# Altium schematic symbol library AudioLib.SchLib: 28 symbols
Pins are listed as number, name and electrical type; pins without a type are passive.

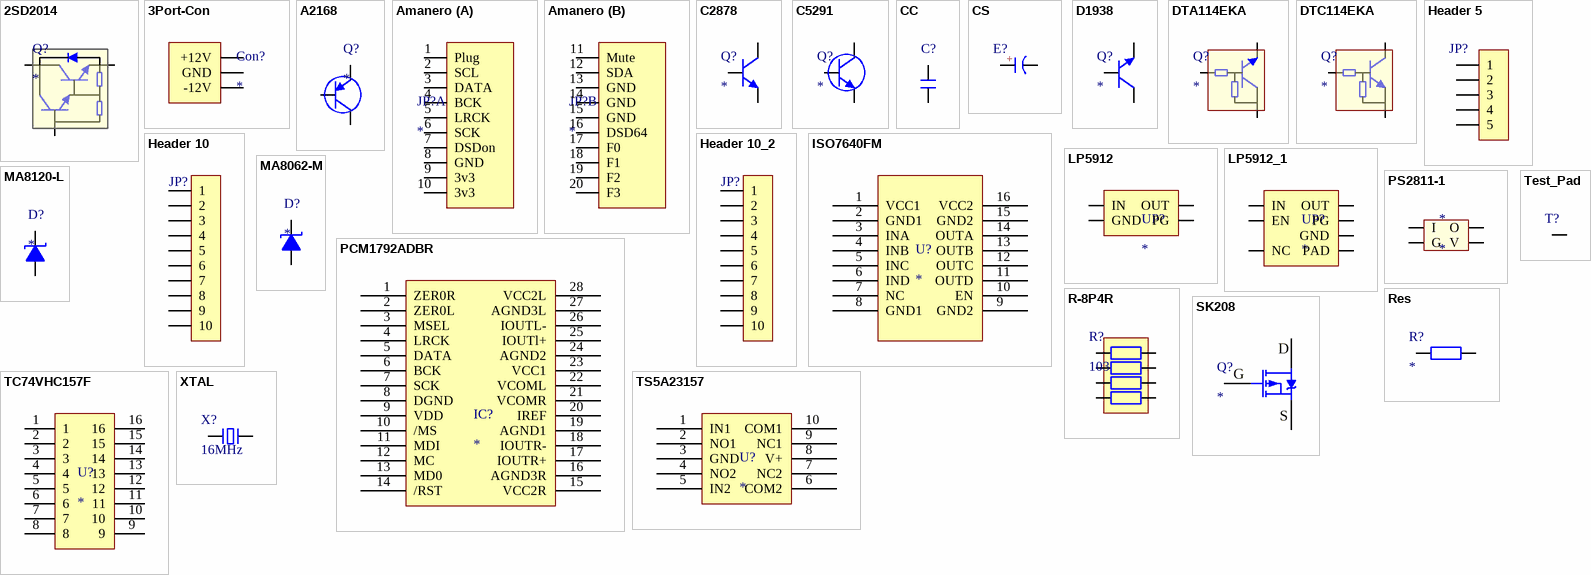
[diagram p0: symbols 2SD2014 to XTAL]

## 2SD2014
designator Q?
pins: 1 B, 2 C, 3 E

## 3Port-Con
designator Con?
Dual-12V Connector
pins: 1 +12V, 2 GND, 3 -12V

## A2168
designator Q?
pins: 1 E, 2 C, 3 B

## Amanero
designator JP?
Manufacturer: Texas Instruments; GENERIC_PART_NUMBER: NE5532; INDUSTRY_STD_PKG_TYPE: SOIC; FAMILY_NAME: STANDARD LINEAR AMPLIFIER; PIN_COUNT: 8; PACKAGE_DESIGNATOR: D; Datasheet_URL: http://www.ti.com/lit/gpn/NE5532; Value: Value; Type: Type; RefDes: RefDes
part A pins: 1 Plug, 2 SCL, 3 DATA, 4 BCK, 5 LRCK, 6 SCK, 7 DSDon, 8 GND, 9 3v3, 10 3v3
part B pins: 11 Mute, 12 SDA, 13 GND, 14 GND, 15 GND, 16 DSD64, 17 F0, 18 F1, 19 F2, 20 F3

## C2878
designator Q?
pins: 1 B, 2 E, 3 C

## C5291
designator Q?
pins: 1 E, 2 C, 3 B

## CC
designator C?
陶片电容
pins: 1, 2

## CS
designator E?
电解电容
pins: A, K
text: +

## D1938
designator Q?
pins: 1 B, 2 E, 3 C

## DTA114EKA
designator Q?
footprint SOT23-3L (3x1.3x1mm(长宽高))
pins: 1 B, 2 E, 3 C

## DTC114EKA
designator Q?
footprint SOT23-3L (3x1.3x1mm(长宽高))
pins: 1 B, 2 C, 3 E

## Header 5
designator JP?, comment HDR-1X5  (value not drawn)
5P接插件; 版权归属: 源创客; BOM名称: 5P接插件; 学习资源: www.ooocke.com
footprint HDR-1X5_H (弯脚排针，5脚)
footprint HDR-1X5 (排针，5脚)
footprint HDR-1X5_M (排母，5脚)
footprint XH2.54-5P (接插件，5P)
footprint VH3.96-5P (接插件，25V/5A)
footprint HDR-1X5_Y (圆孔排母，5脚)
footprint KF2510-5P (接插件/2A)
footprint VH3.96-5P_H (接插件，25V/5A)
footprint XH2.54-5P_H (接插件，5P)
footprint KF301-5P (可拼接端子/6A)
footprint KF2EDGK5.0-5P (直列插拔式端子)
footprint PH2.0 D-L-5P (接插件/1A)
footprint PH2.0 D-W-5P (接插件/1A)
footprint KF2EDGK5.0-5P_H (弯角插拔式端子)
footprint KF7620-5P (38.1*12*12mm(长宽高))
footprint KF350-5P (可拼接端子/10A)
footprint KF128-3.81-5P (螺钉式接线端子，脚距3.81mm)
footprint KF128-5.08-5P (螺钉式接线端子，脚距5.08mm)
footprint PH2.0 S-W-5P (长：14mm，宽：7.6mm，高：5.5mm)
footprint KF2EDGK5.08-5P (直列插拔式端子)
footprint KF2EDGK5.08-5P_H (弯角插拔式端子)
footprint HDR2.54 S-W-5P (5P卧式贴片排针2.54)
footprint HDR2.54 S-W-5P_M (5P卧式贴片排母2.54)
footprint HDR-1X5_M (排母，5脚)
pins: 1, 2, 3, 4, 5

## Header 10
designator JP?, comment HDR-1X10  (value not drawn)
10P接插件; 版权归属: 源创客; BOM名称: 10P接插件; 学习资源: www.ooocke.com
footprint HDR-1X10 (排针，10脚)
footprint HDR-1X10_H (弯脚排针，10脚)
footprint HDR-1X10_Y (圆孔排母，10脚)
footprint PH2.0 D-L-10P (接插件/1A)
footprint PH2.0 D-W-10P (接插件/1A)
footprint XH2.54-10P (接插件，10P)
footprint XH2.54-10P_H
footprint HDR-1X10_M (排母，10脚)
footprint MX 1.25-DIP-10P (10脚，长：14.5mm，宽：3.2mm，高：4.2mm)
footprint MX 1.25-DIP-10P_H (10脚，长：14.5mm，宽：1.8mm，高：3.3mm)
footprint MX 1.25-SMD-10P (10脚，长：14.5mm，宽：3.2mm，高：4.2mm)
footprint MX 1.25-SMD-10P_V (10脚，长：14.5mm，宽：4.2mm，高：3.4mm)
footprint KF128-5.08-10P (螺钉式接线端子，脚距5.08mm)
footprint KF128-3.81-10P (螺钉式接线端子，脚距3.81mm)
footprint PH2.0 S-W-10P (长：24mm，宽：7.6mm，高：5.5mm)
footprint HDR2.54 S-W-10P (10P卧式贴片排针2.54)
footprint HDR2.54 S-W-10P_M (10P卧式贴片排母2.54)
pins: 1, 2, 3, 4, 5, 6, 7, 8, 9, 10

## Header 10_2
designator JP?, comment HDR-1X10  (value not drawn)
10P接插件; 版权归属: 源创客; BOM名称: 10P接插件; 学习资源: www.ooocke.com
footprint HDR-1X10 (排针，10脚)
footprint HDR-1X10_H (弯脚排针，10脚)
footprint HDR-1X10_Y (圆孔排母，10脚)
footprint PH2.0 D-L-10P (接插件/1A)
footprint PH2.0 D-W-10P (接插件/1A)
footprint XH2.54-10P (接插件，10P)
footprint XH2.54-10P_H
footprint HDR-1X10_M (排母，10脚)
footprint MX 1.25-DIP-10P (10脚，长：14.5mm，宽：3.2mm，高：4.2mm)
footprint MX 1.25-DIP-10P_H (10脚，长：14.5mm，宽：1.8mm，高：3.3mm)
footprint MX 1.25-SMD-10P (10脚，长：14.5mm，宽：3.2mm，高：4.2mm)
footprint MX 1.25-SMD-10P_V (10脚，长：14.5mm，宽：4.2mm，高：3.4mm)
footprint KF128-5.08-10P (螺钉式接线端子，脚距5.08mm)
footprint KF128-3.81-10P (螺钉式接线端子，脚距3.81mm)
footprint PH2.0 S-W-10P (长：24mm，宽：7.6mm，高：5.5mm)
footprint HDR2.54 S-W-10P (10P卧式贴片排针2.54)
footprint HDR2.54 S-W-10P_M (10P卧式贴片排母2.54)
pins: 1, 2, 3, 4, 5, 6, 7, 8, 9, 10

## ISO7640FM
designator U?
pins: 1 VCC1, 2 GND1, 3 INA, 4 INB, 5 INC, 6 IND, 7 NC, 8 GND1, 9 GND2, 10 EN, 11 OUTD, 12 OUTC, 13 OUTB, 14 OUTA, 15 GND2, 16 VCC2

## LP5912
designator UP?
pins: 1 OUT, 3 PG, 5 GND, 6 IN

## LP5912_1
designator UP?
pins: 1 OUT, 2 NC, 3 PG, 4 EN, 5 GND, 6 IN, 7 PAD

## MA8062-M
designator D?
pins: 1 A, 2 K

## MA8120-L
designator D?
pins: 1 A, 2 K

## PCM1792ADBR
designator IC?
footprint SSOP-28
footprint DB0028A_N
pins: 1 ZER0R, 2 ZER0L, 3 MSEL, 4 LRCK, 5 DATA, 6 BCK, 7 SCK, 8 DGND, 9 VDD, 10 /MS, 11 MDI, 12 MC, 13 MD0, 14 /RST, 15 VCC2R, 16 AGND3R, 17 IOUTR+, 18 IOUTR-, 19 AGND1, 20 IREF, 21 VCOMR, 22 VCOML, 23 VCC1, 24 AGND2, 25 IOUTl+, 26 IOUTL-, 27 AGND3L, 28 VCC2L

## PS2811-1
designator *
footprint SSOP4_N (3*6.4*1.2mm（长宽高）)
pins: 1 I, 2 G, 3 V, 4 O

## R-8P4R
designator R?, comment 103
贴片网络排阻; 版权归属: 源创客; BOM名称: 贴片网络排阻; 学习资源: www.ooocke.com
footprint RCA-8P4R-0402 (2mm*1mm*0.45mm(长*宽*厚))
footprint RCA-8P4R-0603 (3.2mm*1.6mm*0.6mm(长*宽*厚))
pins: 1, 2, 3, 4, 5, 6, 7, 8

## Res
designator R?
pins: 1, 2

## SK208
designator Q?
pins: 1 G, 2 D, 3 S

## TC74VHC157F
designator U?
pins: 1, 2, 3, 4, 5, 6, 7, 8, 9, 10, 11, 12, 13, 14, 15, 16

## Test_Pad
designator T?  (value not drawn)
footprint Test_Pad
pins: 1 T_P

## TS5A23157
designator U?
SPDT
pins: 1 IN1, 2 NO1, 3 GND, 4 NO2, 5 IN2, 6 COM2, 7 NC2, 8 V+, 9 NC1, 10 COM1

## XTAL
designator X?, comment 16MHz
pins: 1, 2